# Altium schematic symbol library DataLogger.SchLib: 17 symbols
Pins are listed as number, name and electrical type; pins without a type are passive.

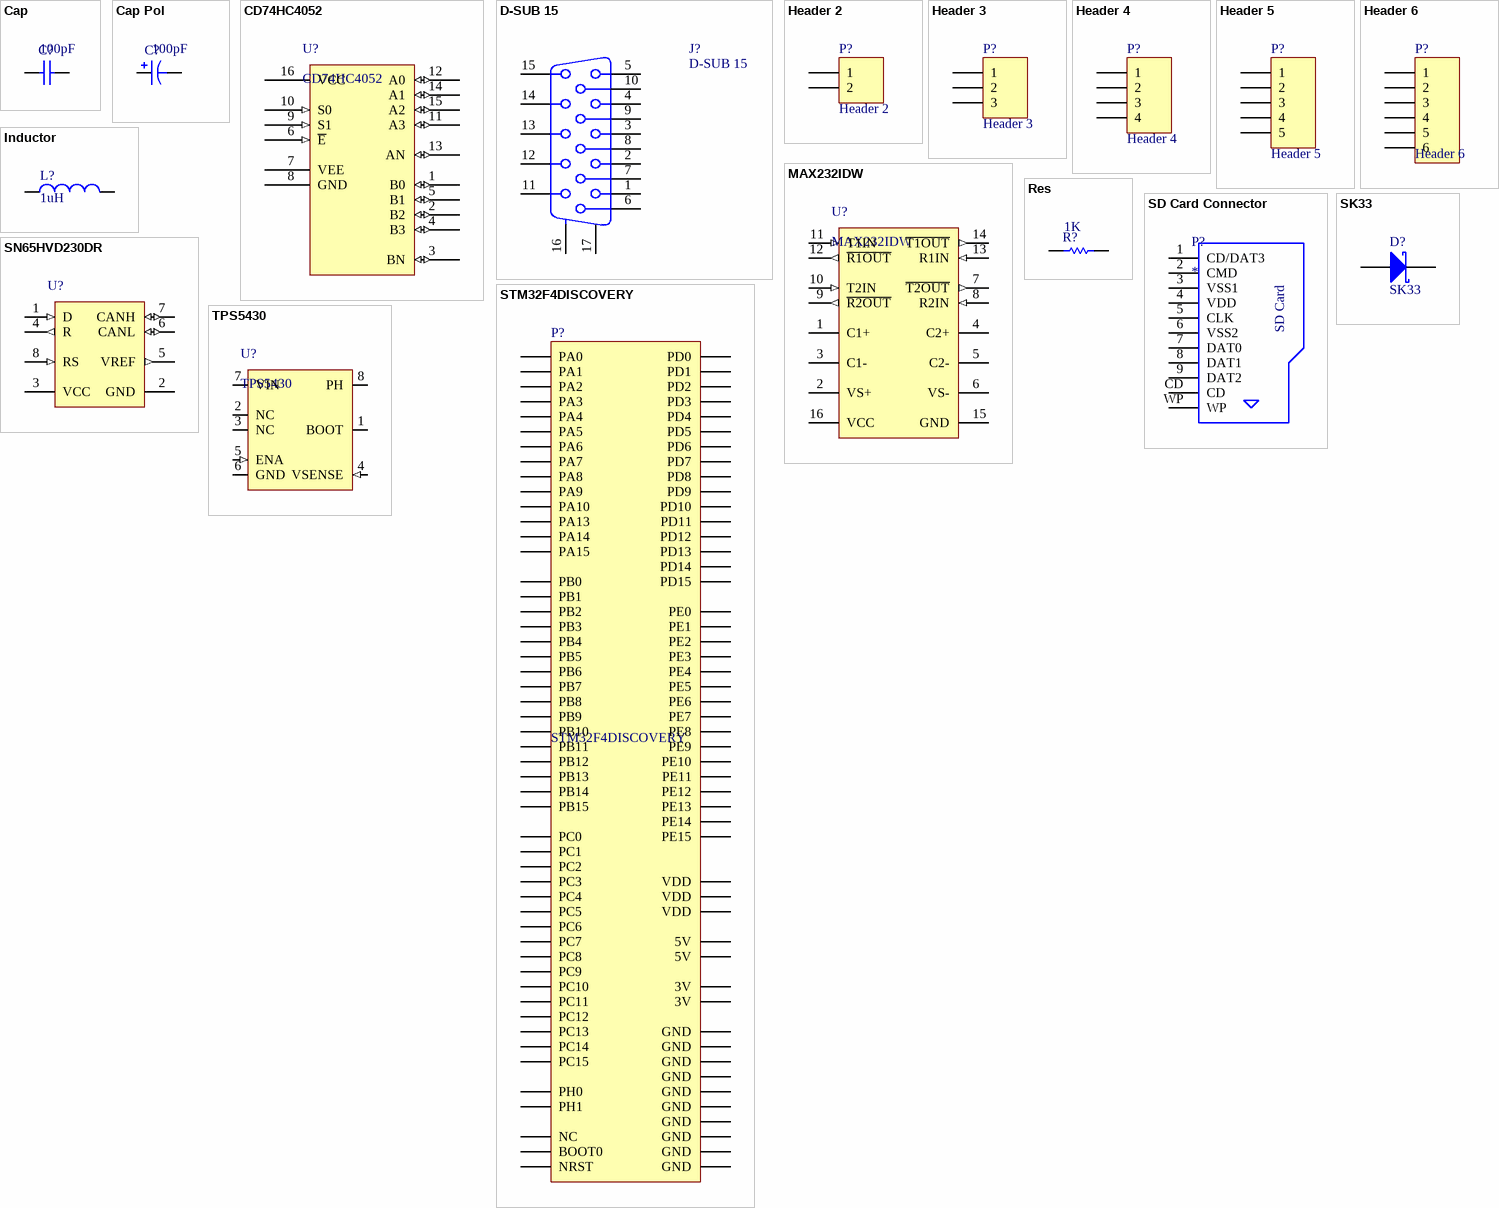
[diagram p0: symbols Cap to TPS5430]

## Cap
designator C?  value 100pF  (hidden comment: Cap)
Capacitor; Supplier Part Number: *; Supplier: *; Manufacturer: *
simulation model CAP (Capacitor)
signal-integrity model Cap
footprint CAP_0805_IPC_MD (Chip Capacitor, 2-Leads, 0805, SAMSUNG, IPC Medium Density)
pins: 1, 2

## Cap Pol
designator C?  value 100pF  (hidden comment: Cap Pol)
Polarized Capacitor; Supplier: *; Manufacturer: *; Supplier Part Number: *
simulation model CAP (Capacitor)
signal-integrity model Cap Pol
footprint CAP_SMD_D_IPC_MD (Capacitor SMD D, IPC Medium Density)
pins: 1, 2
1 alternate drawing of the same symbol

## CD74HC4052
designator U?
MUX/DEMUX; Supplier: *; Manufacturer: *; Supplier Part Number: *
footprint SOIC_16_IPC_MD (SOIC, 16-Leads, Pitch 1,27mm, IPC Medium Density)
footprint SO_16_IPC_MD (SO, 16-Leads, Pitch 1,27mm, IPC Medium Density)
pins: 1 B0 (io), 2 B2 (io), 3 BN (io), 4 B3 (io), 5 B1 (io), 6 ~{E} (in), 7 VEE (power), 8 GND (power), 9 S1 (in), 10 S0 (in), 11 A3 (io), 12 A0 (io), 13 AN (io), 14 A1 (io), 15 A2 (io), 16 VCC

## D-SUB 15
designator J?
Receptacle Assembly, 15-Pin, Sim Line Connector; Supplier: *; Supplier Part Number: *; Manufacturer: *
footprint Dsub-3H15 (Dsub 15 pins, right angled)
signal-integrity model Connector
pins: 1, 2, 3, 4, 5, 6, 7, 8, 9, 10, 11, 12, 13, 14, 15, 16 MH1, 17 MH2

## Header 2
designator P?
Header, 2-Pin; Supplier: *; Supplier Part Number: *; Manufacturer: *
footprint HDR1X2 (Connector; Header; 2 Position)
signal-integrity model Connector
footprint HDR_1x2_3_94_LOCKING
pins: 1, 2

## Header 3
designator P?
Header, 3-Pin; Supplier: *; Manufacturer: *; Supplier Part Number: *
footprint HDR1X3 (Connector; Header; 3 Position)
signal-integrity model Connector
footprint HDR_1x3_3_94_LOCKING
pins: 1, 2, 3

## Header 4
designator P?
Header, 4-Pin; Supplier: *; Supplier Part Number: *; Manufacturer: *
footprint HDR1X4 (Connector; Header; 4 Position)
signal-integrity model Connector
footprint HDR_1x4_3_94_LOCKING
pins: 1, 2, 3, 4

## Header 5
designator P?
Header, 5-Pin; Supplier: *; Supplier Part Number: *; Manufacturer: *
footprint HDR1X5 (Connector; Header; 5 Position)
signal-integrity model Connector
footprint HDR_1x5_3_94_LOCKING
pins: 1, 2, 3, 4, 5

## Header 6
designator P?
Header, 6-Pin; Supplier: *; Manufacturer: *; Supplier Part Number: *
signal-integrity model Connector
footprint HDR_1x6_3_94_LOCKING
pins: 1, 2, 3, 4, 5, 6

## Inductor
designator L?  value 1uH  (hidden comment: Inductor)
Manufacturer: Ferrocore; Supplier: *; Supplier Part Number: *; Isat: *; Irms: *
footprint IND_DL50_IPC_MD (DL50, Inductor, Ferrocore, IPC Medium Density)
simulation model INDUCTOR (Inductor)
signal-integrity model Inductor
pins: 1, 2

## MAX232IDW
designator U?
Dual EIA-232 Driver / Receiver, -40 to 85 degC, 16-Pin SOIC (DW), Green (RoHS & no Sb/Br); Supplier: *; Manufacturer: *; Supplier Part Number: *
footprint SOIC_16_IPC_MD (SOIC, 16-Leads, Pitch 1,27mm, IPC Medium Density)
pins: 1 C1+, 2 VS+ (power), 3 C1-, 4 C2+, 5 C2-, 6 VS- (power), 7 ~{T2OUT} (out), 8 R2IN (in), 9 ~{R2OUT} (out), 10 T2IN (in), 11 T1IN (in), 12 ~{R1OUT} (out), 13 R1IN (in), 14 ~{T1OUT} (out), 15 GND (power), 16 VCC (power)

## Res
designator R?  value 1K  (hidden comment: Res)
Resistor; Supplier: *; Supplier Part Number: *; Manufacturer: *
simulation model RESISTOR (Resistor)
signal-integrity model Res
footprint RES_0805_IPC_MD (Chip Resistor, 2-Leads, 0805, Royal Ohm, IPC Medium Density)
pins: 1, 2

## SD Card Connector
designator P?
WR-CRD SD_Push and Push; Manufacturer: *; Supplier: *; Supplier Part Number: *
footprint 693061010911 (WR-CRD SD_Push and Push_with card detection_9 pins)
pins: 1 CD/DAT3, 2 CMD, 3 VSS1 (power), 4 VDD (power), 5 CLK, 6 VSS2 (power), 7 DAT0, 8 DAT1, 9 DAT2, CD, WP
text: SD Card

## SK33
designator D?
Schottky Diode; Manufacturer: Diotec; ManufacturerURL: http://diotec.com/tl_files/diotec/files/pdf/datasheets/sk32; Supplier: TME; Supplier Part Number: SK33-DIO
simulation model SKYDIODE (Diode)
signal-integrity model D Schottky
footprint DO214AB_IPC_MD (Molded Diode, DO214AB, Diotec Semiconductor, IPC Medium Density)
pins: 1 A, 2 K

## SN65HVD230DR
designator U?
3.3V CAN Transceiver with Standby Mode, 17 mA, -40 to 85 degC, 8-pin SOIC (D), Green (RoHS & no Sb/Br); Manufacturer: Texas Instruments; Supplier: *; Supplier Part Number: *
footprint SOIC_8_IPC_MD (SOIC, 8-Leads, Pitch 1,27mm, IPC Medium Density)
pins: 1 D (in) "Driver input", 2 GND (power) "Ground", 3 VCC (power) "Supply voltage", 4 R (out) "Receiver output", 5 VREF (out) "Reference output", 6 CANL (io) "Low bus output", 7 CANH (io) "High bus output", 8 RS (in) "Standby/slope control"

## STM32F4DISCOVERY
designator P?
STM32F4DISCOVERY connector for shield; Manufacturer: ST Microelectronics; Supplier: *; Supplier Part Number: *
signal-integrity model Connector
footprint DISCOVERY_F4 (Connector; Header; 25x2 Position)
pins: 1 GND (power), 2 GND (power), 3 VDD (power), 4 VDD (power), 5 GND (power), 6 NRST, 7 PC1, 8 PC0, 9 PC3, 10 PC2, 11 PA1, 12 PA0, 13 PA3, 14 PA2, 15 PA5, 16 PA4, 17 PA7, 18 PA6, 19 PC5, 20 PC4, 21 PB1, 22 PB0, 23 GND (power), 24 PB2, 25 PE7, 26 PE8, 27 PE9, 28 PE10, 29 PE11, 30 PE12, 31 PE13, 32 PE14, 33 PE15, 34 PB10, 35 PB11, 36 PB12, 37 PB13, 38 PB14, 39 PB15, 40 PD8, 41 PD9, 42 PD10, 43 PD11, 44 PD12, 45 PD13, 46 PD14, 47 PD15, 48 NC, 49 GND (power), 50 GND (power), 51 GND (power), 52 GND (power), 53 5V (power), 54 5V (power), 55 3V (power), 56 3V (power), 57 PH0, 58 PH1, 59 PC14, 60 PC15, 61 PE6, 62 PC13, 63 PE4, 64 PE5, 65 PE2, 66 PE3, 67 PE0, 68 PE1, 69 PB8, 70 PB9, 71 BOOT0, 72 VDD (power), 73 PB6, 74 PB7, 75 PB4, 76 PB5, 77 PD7, 78 PB3, 79 PD5, 80 PD6, 81 PD3, 82 PD4, 83 PD1, 84 PD2, 85 PC12, 86 PD0, 87 PC10, 88 PC11, 89 PA14, 90 PA15, 91 PA10, 92 PA13, 93 PA8, 94 PA9, 95 PC8, 96 PC9, 97 PC6, 98 PC7, 99 GND (power), 100 GND (power)

## TPS5430
designator U?
3-A, Wide Input Range, Step-Down Converter; Manufacturer: Texas Instruments; Supplier: *; Supplier Part Number: *
footprint SOIC_8_THERMAL_PAD_IPC_MD (SOIC, 8-Leads, Thermal Pad 3,10x2,60mm, IPC Medium Density)
pins: 1 BOOT, 2 NC, 3 NC, 4 VSENSE (in), 5 ENA (in), 6 GND (power), 7 VIN (power), 8 PH, 9 PwPd (power) hidden to GND